# Altium schematic symbol library discrete_resistance.SchLib: 4 symbols
Pins are listed as number, name and electrical type; pins without a type are passive.

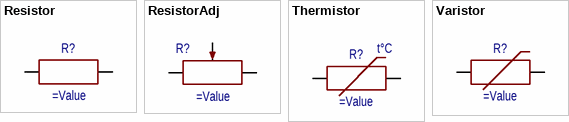
[diagram p0: symbols Resistor to Varistor]

## Resistor
designator R?
Резистор
pins: 1, 2

## ResistorAdj
designator R?
Подстроечный резистор
pins: 1, 2, 3

## Thermistor
designator R?
Терморезистор
pins: 1, 2
text: t°C

## Varistor
designator R?
Варистор
pins: 1, 2